# EAGLE library part SW_2P5T_ROT_56 (library wheat)
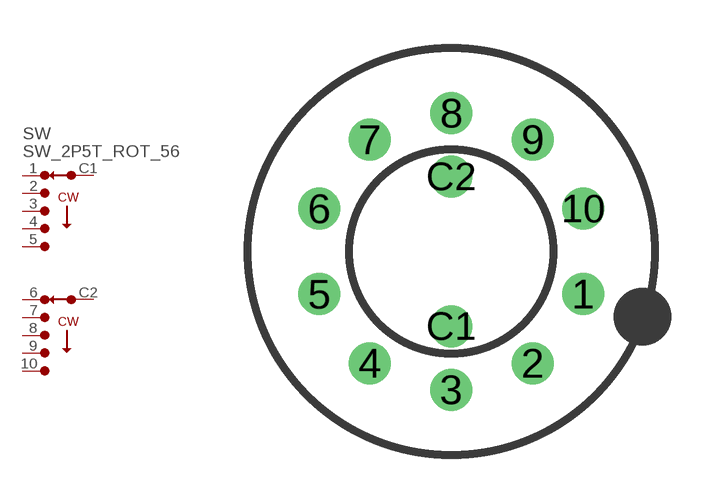
[diagram p219: symbol with the pads of SW_ROTARY_56; footprint SW_ROTARY_56]

Designator prefix SW

## SW_2P5T_ROT_56  [SW_ROTARY_56]
1  A1  pas
2  A2  pas
3  A3  pas
4  A4  pas
5  A5  pas
6  B1  pas
7  B2  pas
8  B3  pas
9  B4  pas
10  B5  pas
C1  AC  pas
C2  BC  pas

## Footprint SW_ROTARY_56 (pad centres in mm)
drill 0.8: 1 4.115,-1.333; 2 2.54,-3.493; 3 0,-4.318; 4 -2.54,-3.493; 5 -4.115,-1.333; 6 -4.115,1.333; 7 -2.54,3.493; 8 0,4.318; 9 2.54,3.493; 10 4.115,1.333; C1 0,-2.337; C2 0,2.337